# EAGLE library part TDA8138A (library linear)
5.1V +12V REGULATOR WITH DISABLE AND RESET
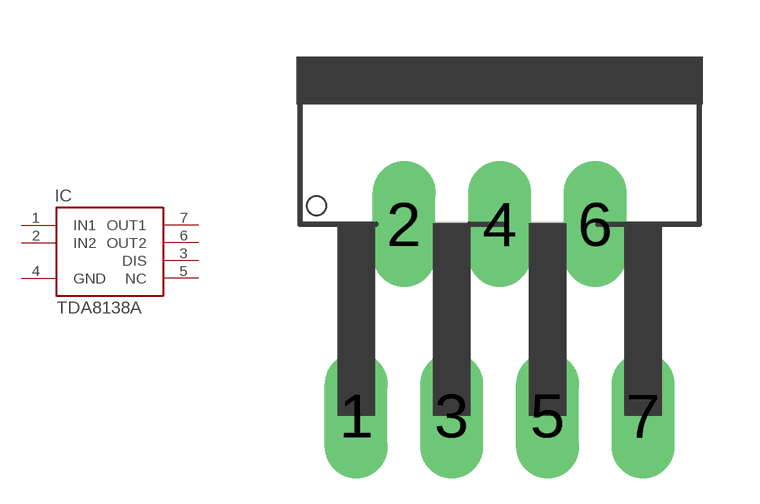
[diagram p266: symbol with the pads of SIP7; footprint SIP7]

Designator prefix IC

## TDA8138A  [SIP7]
1  IN1
2  IN2
3  DIS
4  GND
5  NC
6  OUT2
7  OUT1

## Footprint SIP7 (pad centres in mm)
drill 1 pad 1.676 long: 1 -3.81,-5.08; 2 -2.54,0; 3 -1.27,-5.08; 4 0,0; 5 1.27,-5.08; 6 2.54,0; 7 3.81,-5.08